# EAGLE library part BQ32000DR (library mru-led)
ic srl real time clock 8soic
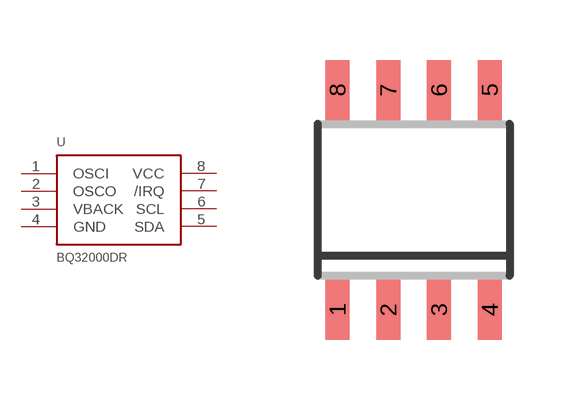
[diagram p3: symbol with the pads of SOIC8; footprint SOIC8]

Designator prefix -

## BQ32000DR  [SOIC8]
1  OSCI
2  OSCO
3  VBACK  pwr
4  GND  pwr
5  SDA  in
6  SCL  in
7  /IRQ  out
8  VCC  pwr

## Footprint SOIC8 (pad centres in mm)
SOIC-8 CASE 751-07 Source: http://www.onsemi.com/pub/Collateral/MC34164-D.PDF D (R-PDSO-G8)PLATIC SMALL-OUTLINE PACKAGE Source: http://focus.ti.com/lit/ds/symlink/tlc27l2.pdf
smd 0.6 x 1.5: 1 -1.905,-2.75; 2 -0.635,-2.75; 3 0.635,-2.75; 4 1.905,-2.75; 5 1.905,2.75; 6 0.635,2.75; 7 -0.635,2.75; 8 -1.905,2.75